# EAGLE library part TPS65130 (library texas)
POSITIVE AND NEGATIVE OUTPUT DC-DC CONVERTER
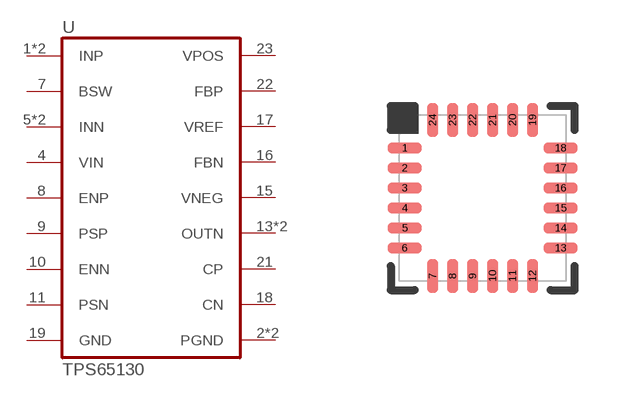
[diagram p77: symbol with the pads of VQFN24; footprint VQFN24]

Designator prefix U

## TPS65130  [VQFN24]
1  INP
2  PGND
3  PGND
4  VIN
5  INN
6  INN
7  BSW
8  ENP
9  PSP
10  ENN
11  PSN
13  OUTN  out
14  OUTN  out
15  VNEG
16  FBN
17  VREF  out
18  CN
19  GND
21  CP
22  FBP
23  VPOS
24  INP

## Footprint VQFN24 (pad centres in mm)
VQFN 24 RGE (S-PVQFN-N24), body 4 x 4 mm, pitch 0.5 mm
smd 0.85 x 0.28: 1 -1.95,1.25; 2 -1.95,0.75; 3 -1.95,0.25; 4 -1.95,-0.25; 5 -1.95,-0.75; 6 -1.95,-1.25; 13 1.95,-1.25; 14 1.95,-0.75; 15 1.95,-0.25; 16 1.95,0.25; 17 1.95,0.75; 18 1.95,1.25
smd 0.28 x 0.85: 7 -1.25,-1.95; 8 -0.75,-1.95; 9 -0.25,-1.95; 10 0.25,-1.95; 11 0.75,-1.95; 12 1.25,-1.95; 19 1.25,1.95; 20 0.75,1.95; 21 0.25,1.95; 22 -0.25,1.95; 23 -0.75,1.95; 24 -1.25,1.95